# Altium footprint library RSX_ICs.PcbLib: 5 footprints
Each footprint in its own frame and in the unit in brackets; x right, y up, seen from the top. Pads: shape width x height; smd on the part's side, far side on the other; paste and mask are expansions set on the pad; w line width, h text height; cw(c..) or ccw(c..) is an arc to the next point about the centre after c.
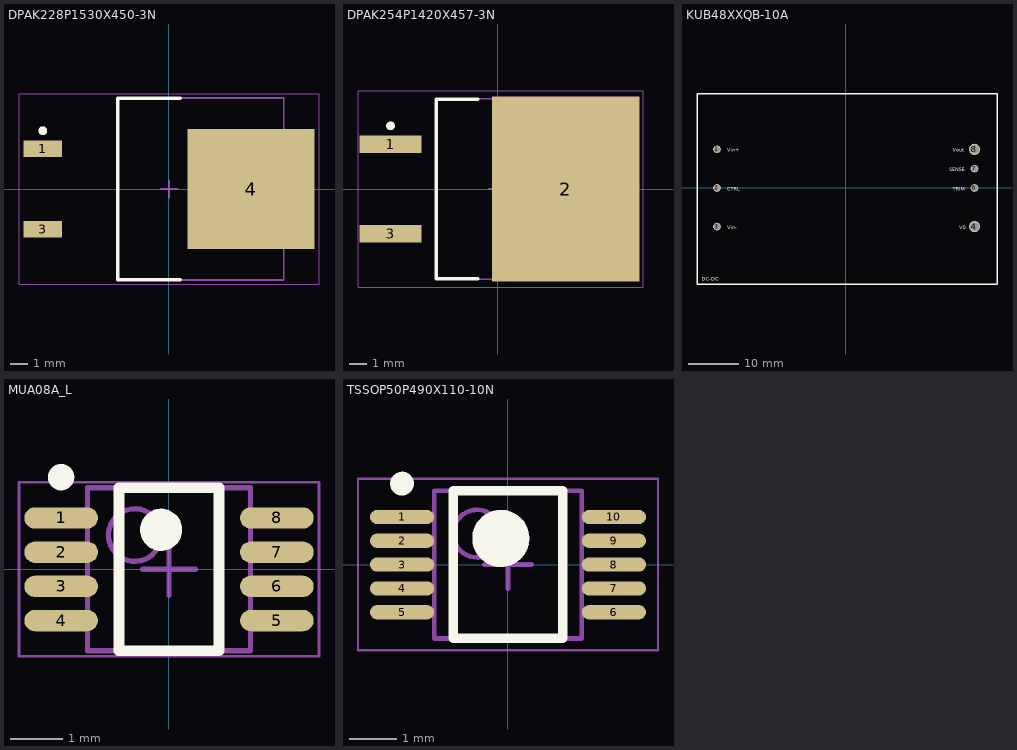
[diagram p0: the footprints below, top view; thin cyan lines are the x and y axes]

## DPAK228P1530X450-3N [mm] "D2-PAK, 3-Pads, Body 7.80x8.51mm (max), IPC Medium Density"
height 4.5
pads (3):
  rect 2.2x0.95 smd: 1(-7.15,2.28) 3(-7.15,-2.28)
  rect 7.2x6.8 smd: 4(4.65,0)
Top Overlay:
  circle w0.25: c-7.15,3.305 r0.125
  lines w0.2: 0.65,-5.15 -2.9,-5.15 -2.9,5.15 0.65,5.15
Mechanical 13:
  lines w0.1: -2.9,-5.15 6.5,-5.15 6.5,5.15 -2.9,5.15 -2.9,-5.15
Mechanical 15:
  lines w0.05: -8.5,-5.4 8.5,-5.4 8.5,5.4 -8.5,5.4 -8.5,-5.4
  lines w0.1: -0.5,0 0.5,0 ; 0,-0.5 0,0.5
3D body "DPAK228P1530X450-3N.step": height 4.5, standoff 0, extent -7.265,-5.15 8.035,5.15

## DPAK254P1420X457-3N [mm] "D2-PAK, 3-Pads, Body 7.77x8.48mm (max), IPC Medium Density"
height 4.58
pads (3):
  rect 3.504x1 smd: 1(-6.1,2.54) 3(-6.1,-2.54)
  rect 8.38x10.49 smd: 2(3.85,0)
Top Overlay:
  circle w0.25: c-6.1,3.59 r0.125
  lines w0.2: -1.143,-5.1 -3.5,-5.1 -3.5,5.1 -1.143,5.1
Mechanical 13:
  lines w0.1: -3.5,-5.125 5.85,-5.125 5.85,5.125 -3.5,5.125 -3.5,-5.125
Mechanical 15:
  lines w0.05: -7.95,-5.588 8.255,-5.588 8.255,5.588 -7.95,5.588 -7.95,-5.588
  lines w0.1: -0.5,0 0.5,0 ; 0,-0.5 0,0.5
3D body "DPAK254P1420X457-3N.step": height 4.83, standoff 0, extent -6.714,-5.125 7.485,5.125

## KUB48XXQB-10A [mm]
pads (7):
  round 1.524 hole 1.2: 1(-25.4,7.62) 2(-25.4,0) 3(-25.4,-7.62) 6(25.4,0) 7(25.4,3.81)
  round 2.2 hole 1.7: 4(25.4,-7.62)
  oval 2.2x2.22 hole 1.7: 8(25.4,7.62)
Top Overlay:
  lines w0.254: -29.337,-18.999 29.845,-18.999 29.845,18.593 -29.21,18.593 -29.337,18.466 -29.337,-18.999
  text "SENSE" at 20.447,3.302 h0.69
  text "TRIM" at 21.082,-0.508 h0.69
  text "Vout" at 21.082,7.112 h0.69
  text "V0" at 22.352,-8.128 h0.69
  text "CTRL" at -23.368,-0.508 h0.69
  text "Vin-" at -23.368,-8.128 h0.69
  text "Vin+" at -23.368,7.112 h0.69
  text "DC-DC" at -28.448,-18.288 h0.69

## MUA08A_L [mm] "TSOP, 8-Leads, Body 3x3mm, Pitch 0.65mm, IPC High Density"
height 1.09
pads (8):
  oval 1.4x0.406 smd: 1(-2.05,0.975) 2(-2.05,0.325) 3(-2.05,-0.325) 4(-2.05,-0.975) 5(2.05,-0.975) 6(2.05,-0.325) 7(2.05,0.325) 8(2.05,0.975)
Top Overlay:
  circle w0.4: c-0.15,0.75 r0.2
  circle w0.25: c-2.05,1.75 r0.125
  lines w0.2: -0.95,-1.55 0.95,-1.55 0.95,1.55 -0.95,1.55 -0.95,-1.55
Mechanical 13:
  circle w0.1: c-0.65,0.65 r0.5
  lines w0.1: -1.55,-1.55 1.55,-1.55 1.55,1.55 -1.55,1.55 -1.55,-1.55
Mechanical 15:
  lines w0.05: -2.85,-1.65 2.85,-1.65 2.85,1.65 -2.85,1.65 -2.85,-1.65
  lines w0.1: -0.5,0 0.5,0 ; 0,-0.5 0,0.5
3D body: height 1.09, standoff 0.06, extent -1.55,-1.55 1.55,1.55

## TSSOP50P490X110-10N [mm] "TSSOP, 10-Leads, Body 3.00x3.00mm, Pitch 0.50mm, IPC Medium Density"
height 1.1
pads (10):
  oval 1.35x0.3 smd: 1(-2.225,1) 2(-2.225,0.5) 3(-2.225,0) 4(-2.225,-0.5) 5(-2.225,-1) 6(2.225,-1) 7(2.225,-0.5) 8(2.225,0) 9(2.225,0.5) 10(2.225,1)
Top Overlay:
  circle w0.25: c-2.225,1.7 r0.125
  circle w0.6: c-0.15,0.55 r0.3
  lines w0.2: -1.15,-1.55 -1.15,1.55 1.15,1.55 1.15,-1.55 -1.15,-1.55
Mechanical 13:
  circle w0.1: c-0.65,0.65 r0.5
  lines w0.1: -1.55,-1.55 -1.55,1.55 1.55,1.55 1.55,-1.55 -1.55,-1.55
Mechanical 15:
  lines w0.05: -3.15,-1.8 -3.15,1.8 3.15,1.8 3.15,-1.8 -3.15,-1.8
  lines w0.1: -0.5,0 0.5,0 ; 0,-0.5 0,0.5
3D body "TSSOP50P490X110-10N.step": height 1.1, standoff 0, extent -2.45,-1.55 2.45,1.55